# Altium footprint library SIGMA_2D.PcbLib: 200 footprints (part 4 of 13)
Each footprint in its own frame and in the unit in brackets; x right, y up, seen from the top. Pads: shape width x height; smd on the part's side, far side on the other; paste and mask are expansions set on the pad; w line width, h text height; cw(c..) or ccw(c..) is an arc to the next point about the centre after c.
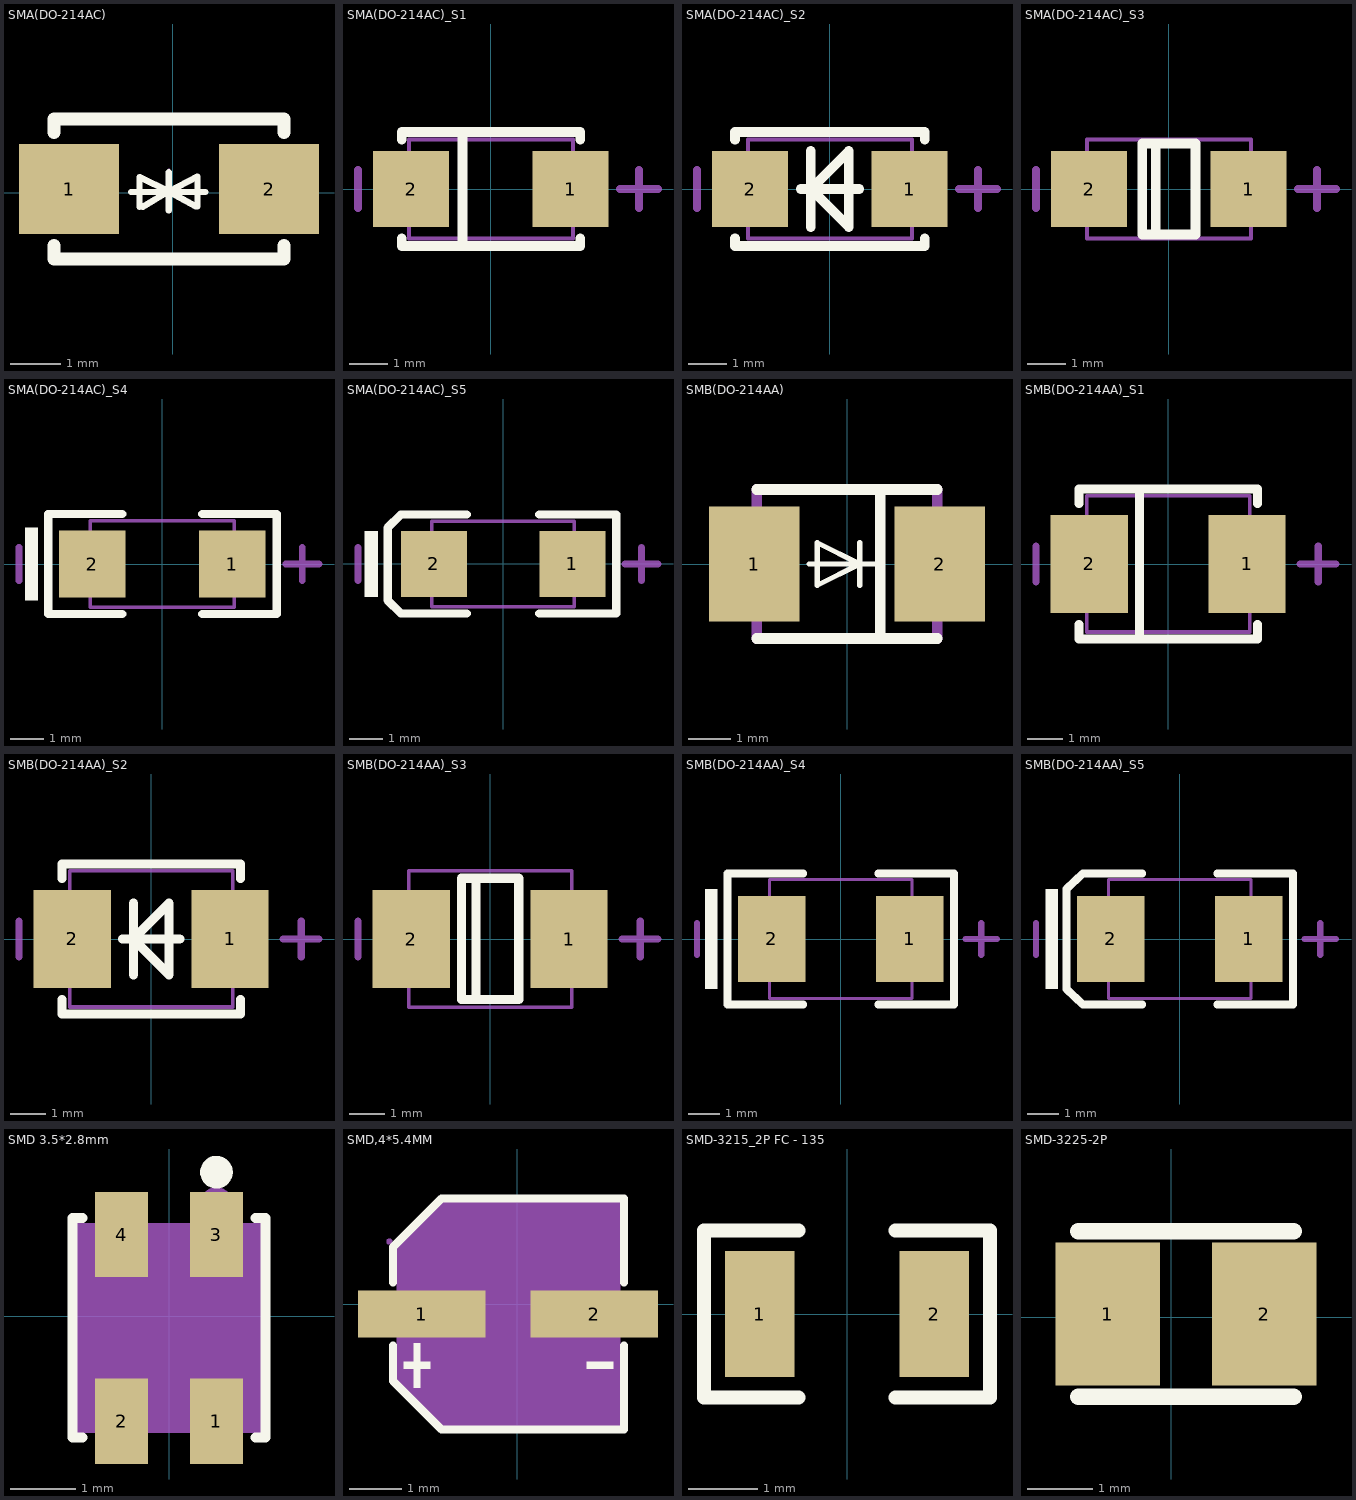
[diagram p3: the footprints below, top view; thin cyan lines are the x and y axes]

## SMA(DO-214AC) [mm] "TVS瞬态抑制二极管"
pads (2):
  rect 2x1.8 smd: 1(-2.073,0.079) 2(1.927,0.079)
Top Overlay:
  lines w0.127: -0.833,0.019 0.657,0.019 ; -0.663,-0.281 -0.663,0.319 -0.075,0.03 ; -0.603,-0.281 -0.075,0.03 ; -0.075,-0.351 -0.075,0.03 ; -0.075,0.411 -0.075,0.03 ; 0.467,-0.271 -0.075,0.03 ; 0.497,-0.271 0.497,0.329 -0.075,0.03
  lines w0.254: -2.373,-1.052 -2.373,-1.321 2.227,-1.321 2.227,-1.052 ; -2.373,1.21 -2.373,1.479 2.227,1.479 2.227,1.21
Mechanical 15:
  lines w0.003: -0.074,0.49 -0.073,0.491

## SMA(DO-214AC)_S1 [mm]
pads (2):
  rect 2x2 smd: 1(2.1,0) 2(-2.1,0)
Top Overlay:
  lines w0.254: -2.35,-1.3 -2.35,-1.5 2.35,-1.5 2.35,-1.3 ; -2.35,1.3 -2.35,1.5 2.35,1.5 2.35,1.3 ; -0.75,-1.5 -0.75,1.5
Mechanical 13:
  lines w0.1: -2.16,-1.3 -2.16,1.3 2.16,1.3 2.16,-1.3 -2.16,-1.3
Mechanical 15:
  lines w0.203: -3.5,-0.5 -3.5,0.5 ; 3.4,0 4.4,0 ; 3.9,-0.5 3.9,0.5

## SMA(DO-214AC)_S2 [mm]
pads (2):
  rect 2x2 smd: 1(2.1,0) 2(-2.1,0)
Top Overlay:
  lines w0.254: -2.5,-1.3 -2.5,-1.5 2.5,-1.5 2.5,-1.3 ; -2.5,1.3 -2.5,1.5 2.5,1.5 2.5,1.3 ; -0.77,0 0.77,0 ; -0.5,-1 -0.5,1 ; -0.5,0 0.5,1 0.5,-1 -0.5,0
Mechanical 13:
  lines w0.1: -2.16,-1.3 -2.16,1.3 2.16,1.3 2.16,-1.3 -2.16,-1.3
Mechanical 15:
  lines w0.203: -3.5,-0.5 -3.5,0.5 ; 3.4,0 4.4,0 ; 3.9,-0.5 3.9,0.5

## SMA(DO-214AC)_S3 [mm]
pads (2):
  rect 2x2 smd: 1(2.1,0) 2(-2.1,0)
Top Overlay:
  lines w0.254: -0.35,-1.2 -0.35,1.2 ; -0.7,-1.2 -0.7,1.2 0.7,1.2 0.7,-1.2 -0.7,-1.2
Mechanical 13:
  lines w0.1: -2.16,-1.3 -2.16,1.3 2.16,1.3 2.16,-1.3 -2.16,-1.3
Mechanical 15:
  lines w0.203: -3.5,-0.5 -3.5,0.5 ; 3.4,0 4.4,0 ; 3.9,-0.5 3.9,0.5

## SMA(DO-214AC)_S4 [mm]
pads (2):
  rect 2x2 smd: 1(2.1,0) 2(-2.1,0)
Top Overlay:
  rectangle: -4.125,-1.1 -3.725,1.1
  lines w0.254: -3.43,1.5 -1.2,1.5 ; -3.429,1.5 -3.429,-1.5 -1.199,-1.5 ; 1.201,-1.5 3.431,-1.5 3.431,1.5 1.201,1.5
Mechanical 13:
  lines w0.1: -2.16,-1.3 2.16,-1.3 2.16,1.3 -2.16,1.3 -2.16,-1.3
Mechanical 15:
  lines w0.203: -4.3,-0.5 -4.3,0.5 ; 3.7,0 4.7,0 ; 4.2,-0.5 4.2,0.5

## SMA(DO-214AC)_S5 [mm]
pads (2):
  rect 2x2 smd: 1(2.1,0) 2(-2.1,0)
Top Overlay:
  rectangle: -4.2,-1 -3.8,1
  lines w0.254: -1.1,-1.5 -3.1,-1.5 -3.5,-1.1 -3.5,1.1 -3.1,1.5 -1.1,1.5 ; 1.1,-1.5 3.431,-1.5 3.431,1.5 1.1,1.5
Mechanical 13:
  lines w0.1: -2.16,-1.3 -2.16,1.3 2.16,1.3 2.16,-1.3 -2.16,-1.3
Mechanical 15:
  lines w0.203: -4.4,-0.5 -4.4,0.5 ; 3.7,0 4.7,0 ; 4.2,-0.5 4.2,0.5

## SMB(DO-214AA) [mil]
pads (2):
  rect 85x108 smd: 1(-87,0) 2(87,0)
Top Overlay:
  lines w5: -35.43,0 32.13,0 ; 12.13,-20 12.13,20 12.13,0 ; 12.13,0 -27.87,20 -27.87,-20 12.13,0
  lines w10: -85,-70 85,-70 ; -85,70 85,70 ; 31.19,-70 31.19,70
Mechanical 15:
  lines w10: -85,-70 -85,70 ; -85,-40 -110,-40 -110,40 -85,40 ; 85,-70 85,70 ; 85,-40 110,-40 110,40 85,40

## SMB(DO-214AA)_S1 [mm]
pads (2):
  rect 2.159x2.743 smd: 1(2.21,0) 2(-2.21,0)
Top Overlay:
  lines w0.254: -2.5,-1.7 -2.5,-2.1 2.5,-2.1 2.5,-1.7 ; -2.5,1.7 -2.5,2.1 2.5,2.1 2.5,1.7 ; -0.8,-2.1 -0.8,2.1
Mechanical 13:
  lines w0.1: -2.285,-1.905 -2.285,1.905 2.285,1.905 2.285,-1.905 -2.285,-1.905
Mechanical 15:
  lines w0.203: -3.7,-0.5 -3.7,0.5 ; 3.7,0 4.7,0 ; 4.2,-0.5 4.2,0.5

## SMB(DO-214AA)_S2 [mm]
pads (2):
  rect 2.159x2.743 smd: 1(2.21,0) 2(-2.21,0)
Top Overlay:
  lines w0.254: -2.5,-1.7 -2.5,-2.1 2.5,-2.1 2.5,-1.7 ; -2.5,1.7 -2.5,2.1 2.5,2.1 2.5,1.7 ; -0.8,0 0.8,0 ; -0.5,-1 -0.5,1 ; -0.5,0 0.5,-1 0.5,1 -0.5,0
Mechanical 13:
  lines w0.1: -2.285,-1.905 -2.285,1.905 2.285,1.905 2.285,-1.905 -2.285,-1.905
Mechanical 15:
  lines w0.203: -3.7,-0.5 -3.7,0.5 ; 3.7,0 4.7,0 ; 4.2,-0.5 4.2,0.5

## SMB(DO-214AA)_S3 [mm]
pads (2):
  rect 2.159x2.743 smd: 1(2.21,0) 2(-2.21,0)
Top Overlay:
  lines w0.254: -0.4,-1.7 -0.4,1.7 ; -0.8,-1.7 -0.8,1.7 0.8,1.7 0.8,-1.7 -0.8,-1.7
Mechanical 13:
  lines w0.1: -2.285,-1.905 -2.285,1.905 2.285,1.905 2.285,-1.905 -2.285,-1.905
Mechanical 15:
  lines w0.203: -3.7,-0.5 -3.7,0.5 ; 3.7,0 4.7,0 ; 4.2,-0.5 4.2,0.5

## SMB(DO-214AA)_S4 [mm]
pads (2):
  rect 2.159x2.743 smd: 1(2.21,0) 2(-2.21,0)
Top Overlay:
  rectangle: -4.35,-1.6 -3.95,1.6
  lines w0.254: -1.2,-2.1 -3.625,-2.1 -3.625,2.1 -1.2,2.1 ; 1.2,-2.1 3.625,-2.1 3.625,2.1 1.2,2.1
Mechanical 13:
  lines w0.1: -2.285,-1.905 2.285,-1.905 2.285,1.905 -2.285,1.905 -2.285,-1.905
Mechanical 15:
  lines w0.203: -4.6,-0.5 -4.6,0.5 ; 4,0 5,0 ; 4.5,-0.5 4.5,0.5

## SMB(DO-214AA)_S5 [mm]
pads (2):
  rect 2.159x2.743 smd: 1(2.21,0) 2(-2.21,0)
Top Overlay:
  rectangle: -4.296,-1.6 -3.896,1.6
  lines w0.254: -1.2,-2.1 -3.1,-2.1 -3.625,-1.6 -3.625,1.6 -3.1,2.1 -1.2,2.1 ; 1.2,-2.1 3.625,-2.1 3.625,2.1 1.2,2.1
Mechanical 13:
  lines w0.1: -2.285,-1.905 -2.285,1.905 2.285,1.905 2.285,-1.905 -2.285,-1.905
Mechanical 15:
  lines w0.203: -4.6,-0.5 -4.6,0.5 ; 4,0 5,0 ; 4.5,-0.5 4.5,0.5

## SMD 3.5*2.8mm [mm]
pads (4):
  rect 0.812x1.305 smd: 1(0.725,-1.608) 2(-0.725,-1.608) 3(0.725,1.247) 4(-0.725,1.247)
Top Overlay:
  circle w0.25: c0.725,2.199 r0.125
  lines w0.152: -1.322,-1.857 -1.476,-1.857 -1.476,1.496 -1.322,1.496 ; 1.321,-1.857 1.476,-1.857 1.476,1.496 1.321,1.496
Mechanical 4:
  region: 1.4,1.419 1.4,-1.781 -1.4,-1.781 -1.4,1.419
Mechanical 5:
  region: 1.1,-1.781 1.1,-0.981 0.35,-0.981 0.35,-1.781
  region: -0.35,-1.781 -0.35,-0.981 -1.1,-0.981 -1.1,-1.781
  region: -0.35,1.419 -0.35,0.619 -1.1,0.619 -1.1,1.419
  region: 1.1,1.419 1.1,0.619 0.35,0.619 0.35,1.419
Mechanical 6:
  circle w0.06: c1.4,1.419 r0.03
Mechanical 15:
  drawing of 109 lines, arcs and shapes, not listed

## SMD,4*5.4MM [mm]
pads (2):
  rect 2.46x0.91 smd: 1(-1.843,-0.187) 2(1.478,-0.187)
Top Overlay:
  region: 1.848,-1.111 1.848,-1.24 1.332,-1.24 1.332,-1.111
  region: -2.194,-1.111 -2.194,-1.24 -1.678,-1.24 -1.678,-1.111
  region: -2.001,-0.746 -2.001,-1.606 -1.872,-1.606 -1.872,-0.746
  lines w0.152: -2.4,-0.794 -2.4,-1.477 -1.463,-2.413 2.053,-2.413 2.053,-0.794 ; -2.4,0.421 -2.4,1.103 -1.463,2.039 2.053,2.039 2.053,0.421
Mechanical 4:
  region: 1.977,1.963 1.977,-2.337 -1.463,-2.337 -2.323,-1.477 -2.323,1.103 -1.463,1.963
Mechanical 5:
  region: 2.127,0.138 2.127,-0.512 0.327,-0.512 0.327,0.138
  region: -2.473,0.138 -2.473,-0.512 -0.673,-0.512 -0.673,0.138
Mechanical 6:
  circle w0.06: c-2.469,1.21 r0.03
Mechanical 15:
  region: 1.848,-0.122 1.848,-0.251 1.332,-0.251 1.332,-0.122
  region: -2.194,-0.122 -2.194,-0.251 -1.678,-0.251 -1.678,-0.122
  region: -2.001,0.243 -2.001,-0.617 -1.872,-0.617 -1.872,0.243

## SMD-3215_2P FC - 135 [mm]
pads (2):
  rect 1x1.8 smd: 1(-1.25,0) 2(1.25,0)
Top Overlay:
  lines w0.2: -0.695,-1.2 -2.05,-1.2 -2.05,1.2 -0.695,1.2 ; 0.695,-1.2 2.05,-1.2 2.05,1.2 0.695,1.2

## SMD-3225-2P [mm]
pads (2):
  rect 1.6x2.2 smd: 1(-0.971,0.051) 2(1.429,0.051)
Top Overlay:
  lines w0.254: -1.422,-1.219 1.88,-1.219 ; -1.422,1.321 1.88,1.321